# EAGLE library part FYQ-5641 (library FYQ-5641)
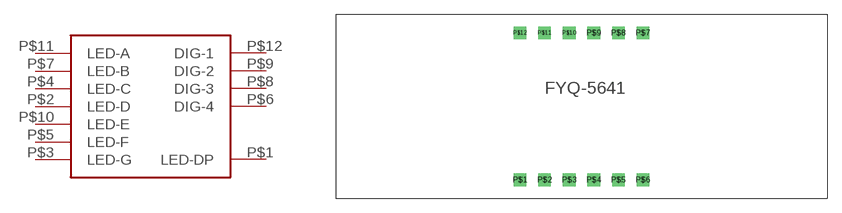
[diagram p0: symbol with the pads of FYQ-5641; footprint FYQ-5641]

Designator prefix -

## FYQ-5641  [FYQ-5641]
P$1  LED-DP
P$2  LED-D
P$3  LED-G
P$4  LED-C
P$5  LED-F
P$6  DIG-4
P$7  LED-B
P$8  DIG-3
P$9  DIG-2
P$10  LED-E
P$11  LED-A
P$12  DIG-1

## Footprint FYQ-5641 (pad centres in mm)
drill 0.8 square: P$1 -6.35,-7.62; P$2 -3.81,-7.62; P$3 -1.27,-7.62; P$4 1.27,-7.62; P$5 3.81,-7.62; P$6 6.35,-7.62; P$7 6.35,7.62; P$8 3.81,7.62; P$9 1.27,7.62; P$10 -1.27,7.62; P$11 -3.81,7.62; P$12 -6.35,7.62